# Altium schematic symbol library Schlib1.SchLib: 16 symbols
Pins are listed as number, name and electrical type; pins without a type are passive.

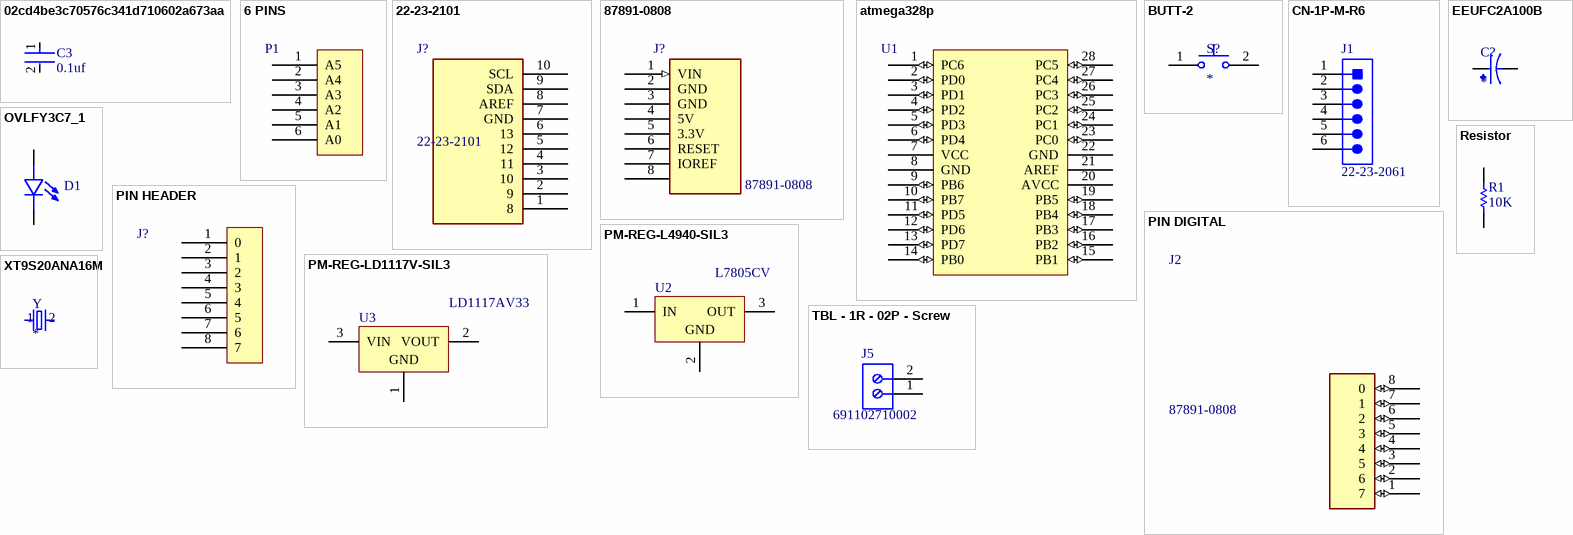
[diagram p0: symbols 02cd4be3c70576c341d710602a673aa to XT9S20ANA16M]

## 02cd4be3c70576c341d710602a673aa
designator C3, comment 0.1uf
CAP CER 0.1UF 50V X7R RADIAL; Capacitance: 100nF; Tolerance: 10%; Dielectric Material: Ceramic; Lead Length: 30mm; Lead Diameter: 0.5mm; Lead/Base Style: Formed Leads; Diameter: 500um; Max Operating Temperature: 125°C; Case/Package: Dipped; Dielectric: X7R; Lead Free: Lead Free; Construction: RADIAL; Voltage: 50V; Thickness: 2.6mm; Min Operating Temperature: -55°C; Lead Pitch: 5mm; Height: 4mm; Radiation Hardening: No; Voltage Rating: 50V; Depth: 2.5mm; Voltage Rating (DC): 50V; Package Quantity: 1; Weight: 0.005644oz; Series: K; Mount: Through Hole; Termination: Radial; Height - Seated (Max): 0.257inch; Length: 4mm; Packaging: Tape and Reel; Width: 2.5mm; RoHS Compliant: Yes
footprint FP-K15H5-MFG
pins: 1, 2

## 6 PINS
designator P1
pins: 1 A5, 2 A4, 3 A3, 4 A2, 5 A1, 6 A0

## 22-23-2101
designator J?
2.54mm,header,KK,vert,Sn,frictn lock,10w Molex KK 254 Series, Series Number 6373, 2.54mm Pitch 10 Way 1 Row Straight PCB Header, Solder Termination, 4A; Geometry.Height: 11.05mm; Manufacturer_Name: Molex; Manufacturer_Part_Number: 22-23-2101; Mouser Part Number: 538-22-23-2101; Mouser Price/Stock: https://www.mouser.co.uk/ProductDetail/Molex/22-23-2101?qs=ekUqD6al18JrLI5%2F9qV%252BVA%3D%3D; Arrow Part Number: *; Arrow Price/Stock: *; Datasheet Link: http://www.molex.com/pdm_docs/sd/022232101_sd.pdf
footprint SHDR10W87P0X254_1X10_2525X635X1105P
pins: 1 8, 2 9, 3 10, 4 11, 5 12, 6 13, 7 GND, 8 AREF, 9 SDA, 10 SCL

## 87891-0808
designator J?
Headers & Wire Housings 2.54MM PITCH SRSW T/H HEADER 8 CKT; Manufacturer_Name: Molex; Geometry.Height: 16.41mm; Manufacturer_Part_Number: 87891-0808; Mouser Part Number: 538-87891-0808; Mouser Price/Stock: https://www.mouser.co.uk/ProductDetail/Molex/87891-0808?qs=iLbezkQI%252Bsh%252BavKMBAJgwA%3D%3D; Arrow Part Number: *; Arrow Price/Stock: *; Datasheet Link: https://www.molex.com/pdm_docs/sd/878910808_sd.pdf
footprint HDRV8W69P0X254_1X8_2032X251X1641P
pins: 1 VIN (in), 2 GND (power), 3 GND (power), 4 5V (power), 5 3.3V (power), 6 RESET, 7 IOREF (power), 8

## atmega328p
designator U1
footprint DIP787W46P254L3467H508Q28
pins: 1 PC6 (io), 2 PD0 (io), 3 PD1 (io), 4 PD2 (io), 5 PD3 (io), 6 PD4 (io), 7 VCC (power), 8 GND (power), 9 PB6 (io), 10 PB7 (io), 11 PD5 (io), 12 PD6 (io), 13 PD7 (io), 14 PB0 (io), 15 PB1 (io), 16 PB2 (io), 17 PB3 (io), 18 PB4 (io), 19 PB5 (io), 20 AVCC (power), 21 AREF (power), 22 GND (power), 23 PC0 (io), 24 PC1 (io), 25 PC2 (io), 26 PC3 (io), 27 PC4 (io), 28 PC5 (io)

## BUTT-2
designator S?
Tactile Switches MINI PUSH BUTTON SWITCH 2-PIN QTY. 4; MF: Gravitech; MP: BUTT-2; Purchase-URL: https://pricing.snapeda.com/search/part/BUTT-2/?ref=eda; Package: None; Value: *; Check_prices: https://www.snapeda.com/parts/BUTT-2/Gravitech/view-part/?ref=eda; SnapEDA_Link: https://www.snapeda.com/parts/BUTT-2/Gravitech/view-part/?ref=snap; Availability: In Stock; Price: None
footprint SW_BUTT-2
pins: 1, 2

## CN-1P-M-R6
designator J1, comment 22-23-2061
Male Header, Pitch 2.54 mm, 1 x 6 Position, Height 10.67 mm, Tail Length 3.56 mm, 0 to 70 degC, RoHS, Bulk; Manufacturer: Molex; Pitch: 2.54mm; Mounting Angle: Vertical; Current Rating: 4A; Number of Positions / Contacts: 6; Voltage Rating: 250V; Packaging: Bulk; Package Description: Male Header, Pitch 2.54 mm, 1 x 6 Position, Height 10.67 mm, Tail Length 3.56 mm; Number of Rows: 1; Type: PinStrip; Contact Material: Brass; Product Category: .100K.K.Connectors; Factory Pack Quantity: 1000; Mounting Style: ThroughHole; RoHS: Details; Contact Plating: Tin; Housing Material: Nylon; Mounting Technology: ThroughHole; Termination Style: ThroughHole; Tradename: KK; Number of Positions: 6; Brand: Molex; Product Type: Headers; Series: 6373; Datasheet URL: https://datasheet.ciiva.com/19460/232303-19460895.pdf; Package Reference: 22-23-2061; Datasheet Version: Rev. P, 09/2001; Manufacturer URL: http://www.molex.com/
footprint MOLX-22-23-2061_V (THD, 6-Leads, Body 15.24x6.35mm, Pitch 2.54mm)
pins: 1, 2, 3, 4, 5, 6

## EEUFC2A100B
designator C?
Cap Aluminum Lytic 10uF 100V 20% Radial 105C Automotive Ammo; MF: Panasonic; MP: EEU-FC2A100B; Value: *; Price: None; Package: RADIAL-2 Panasonic; SnapEDA_Link: https://www.snapeda.com/parts/EEU-FC2A100B/Panasonic/view-part/2304901/?ref=snap; Check_prices: https://www.snapeda.com/parts/EEU-FC2A100B/Panasonic/view-part/2304901/?ref=eda; Availability: In Stock; Purchase-URL: https://pricing.snapeda.com/search/part/EEU-FC2A100B/?ref=eda
footprint CAPPRD500W50D630H1120
pins: N, P

## OVLFY3C7_1
designator D1
LED 5mm Round Yellow 30 deg. | Optek (TT Electronics) OVLFY3C7; MF: TT Electronics/Optek Technology; SnapEDA_Link: https://www.snapeda.com/parts/OVLFY3C7/TT+Electronics%252FOptek+Technology/view-part/?ref=snap; Package: Radial Optek; Value: *; MP: OVLFY3C7; Check_prices: https://www.snapeda.com/parts/OVLFY3C7/TT+Electronics%252FOptek+Technology/view-part/?ref=eda
footprint LED_WP7113LGD
pins: 1 A, 2 C

## PIN DIGITAL
designator J2, comment 87891-0808
Headers & Wire Housings 2.54MM PITCH SRSW T/H HEADER 8 CKT; Manufacturer_Name: Molex; Geometry.Height: 16.41mm; Manufacturer_Part_Number: 87891-0808; Mouser Part Number: 538-87891-0808; Mouser Price/Stock: https://www.mouser.co.uk/ProductDetail/Molex/87891-0808?qs=iLbezkQI%252Bsh%252BavKMBAJgwA%3D%3D; Arrow Part Number: *; Arrow Price/Stock: *; Datasheet Link: https://www.molex.com/pdm_docs/sd/878910808_sd.pdf
footprint HDRV8W69P0X254_1X8_2032X251X1641P
pins: 1 7 (io), 2 6 (io), 3 5 (io), 4 (io), 5 3 (io), 6 2 (io), 7 1 (io), 8 0 (io)

## PIN HEADER
designator J?
footprint HDRV8W69P0X254_1X8_2032X251X1641P
pins: 1 0, 2 1, 3 2, 4 3, 5 4, 6 5, 7 6, 8 7

## PM-REG-L4940-SIL3
designator U2, comment L7805CV
Positive Voltage Regulator, 5V, 3-Pin TO-220; PackageDescription: TO, Thru-Hole, Vertical, Heatsink Mounted; 3 In-Line Leads; Pitch 2.54 mm; ComponentLink2Description: Datasheet; PackageReference: TO220; ComponentLink3URL: http://www.st.com/internet/com/TECHNICAL_RESOURCES/TECHNICAL_LITERATURE/PACKAGE_INFORMATION/CD00004649.pdf; DatasheetVersion: 16/11/2011; ComponentLink1Description: Manufacturer URL; ComponentLink1URL: http://www.st.com; PackageVersion: ver3.0; ComponentLink3Description: Package Specification; ComponentLink2URL: http://www.st.com/internet/com/TECHNICAL_RESOURCES/TECHNICAL_LITERATURE/DATASHEET/CD00000444.pdf
footprint TO220 (TO, Thru-Hole, Vertical, Heatsink Mounted; 3 In-Line Leads; Pitch 2.54 mm)
pins: 1 IN (power), 2 GND (power), 3 OUT (power)

## PM-REG-LD1117V-SIL3
designator U3, comment LD1117AV33
1A, Low Drop Positive Voltage Regulator, 3.3V, 3-Pin TO-220; ComponentLink1URL: http://www.st.com; PackageDescription: TO, Thru-Hole, Vertical, Heatsink Mounted; 3 In-Line Leads; Pitch 2.54 mm; PackageVersion: ver3.0; ComponentLink3URL: http://www.st.com/internet/com/TECHNICAL_RESOURCES/TECHNICAL_LITERATURE/PACKAGE_INFORMATION/CD00004649.pdf; ComponentLink3Description: Package Specification; ComponentLink1Description: Manufacturer URL; ComponentLink2URL: http://www.st.com/internet/com/TECHNICAL_RESOURCES/TECHNICAL_LITERATURE/DATASHEET/CD00002116.pdf; PackageReference: TO220; DatasheetVersion: 2/12/2011; ComponentLink2Description: Datasheet
footprint TO220 (TO, Thru-Hole, Vertical, Heatsink Mounted; 3 In-Line Leads; Pitch 2.54 mm)
pins: 1 GND (power), 2 VOUT (power), 3 VIN (power)

## Resistor
designator R1  value 10K  (hidden comment: Resistor)
TC1: 0; SimulationGenericComponent: True; TC2: 0
simulation model R_Resistor_Default (Model Description)
footprint res
pins: 1, 2

## TBL - 1R - 02P - Screw
designator J5, comment 691102710002
NexarPartId: 8917706; Number of Levels: 1; Number of Positions Per Level: 2; Current: 15A; Voltage: 300V; Pitch: 5.0038mm; Plating: Steel; Stripping Length: -6mm; Wire Gauge (Min): 14AWG; Wire Gauge (Max): 22AWG; Length: 7.5mm; Contact Material: Brass; Contact Plating: Tin; Packaging: Box; Number of Pins: 2; Voltage Rating: 300V; Termination: Screw; Number of Contacts: 2; Color: Blue; Current Rating: 15A; Mount: Through Hole; Max Operating Temperature: 105°C; Min Operating Temperature: -40°C; REACH SVHC: Unknown; Height: 13.4mm; Width: 11.2mm; Housing Material: Nylon; RoHS: Compliant; Wire/Cable Gauge: 22AWG; Lead Pitch: 5mm
footprint 691102710002 (Conn Terminal Block 2 POS 5mm Solder ST Thru-Hole 15A Box)
pins: 1, 2

## XT9S20ANA16M
designator Y
Microprocessor, Crystal; 16 MHz; + 30 ppm _Typ._ @ 25 degC; 7 pF _Max._; 40 Ohm; MF: Vishay Dale; MP: XT9S20ANA16M; Value: *; SnapEDA_Link: https://www.snapeda.com/parts/XT9S20ANA16M/Vishay%20Dale/view-part/231144/?ref=snap; Price: None; Availability: Unavailable; Package: None
footprint XT9S20ANA16M
pins: 1, 2